# EAGLE library part RTC (library TIcustom)
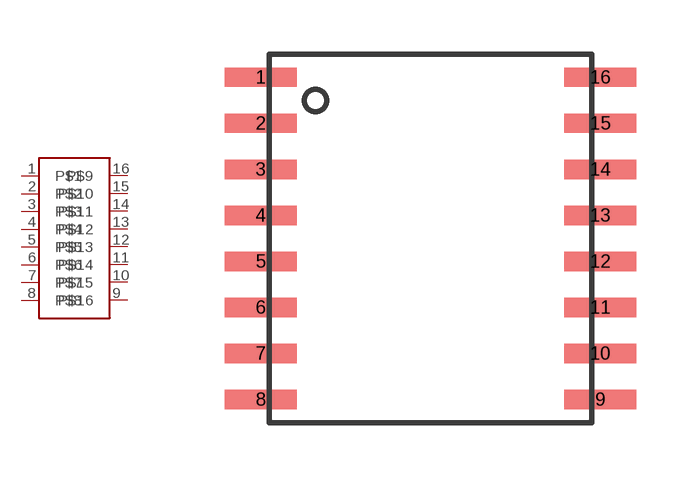
[diagram p6: symbol with the pads of RTC; footprint RTC]

Designator prefix -

## RTC  [RTC]
1  P$1
2  P$2
3  P$3
4  P$4
5  P$5
6  P$6
7  P$7
8  P$8
9  P$16
10  P$15
11  P$14
12  P$13
13  P$12
14  P$11
15  P$10
16  P$9

## Footprint RTC (pad centres in mm)
smd 1.98 x 0.53: 1 -4.685,4.445; 2 -4.685,3.175; 3 -4.685,1.905; 4 -4.685,0.635; 5 -4.685,-0.635; 6 -4.685,-1.905; 7 -4.685,-3.175; 8 -4.685,-4.445; 9 4.685,-4.445; 10 4.685,-3.175; 11 4.685,-1.905; 12 4.685,-0.635; 13 4.685,0.635; 14 4.685,1.905; 15 4.685,3.175; 16 4.685,4.445